# Altium footprint library PCA9685PW,118.PcbLib: 3 footprints
Each footprint in its own frame and in the unit in brackets; x right, y up, seen from the top. Pads: shape width x height; smd on the part's side, far side on the other; paste and mask are expansions set on the pad; w line width, h text height; cw(c..) or ccw(c..) is an arc to the next point about the centre after c.
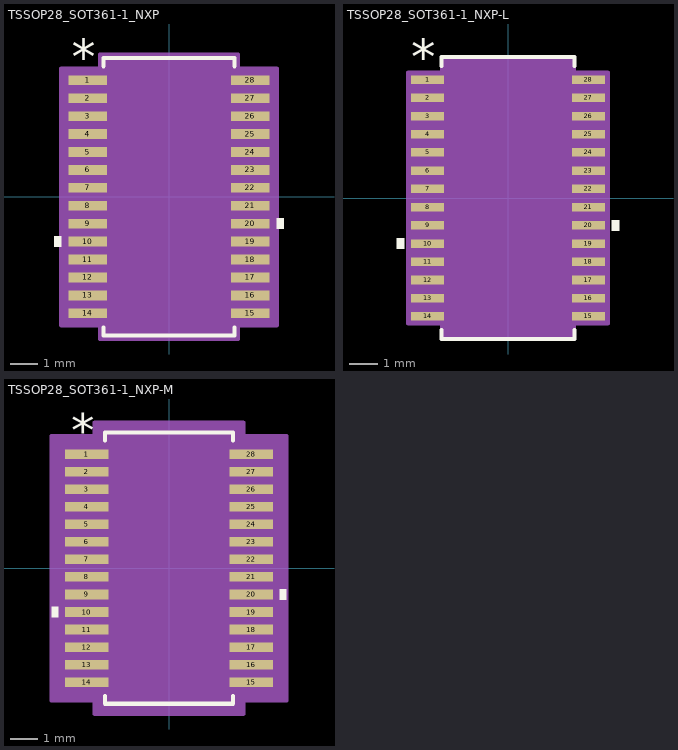
[diagram p0: the footprints below, top view; thin cyan lines are the x and y axes]

## TSSOP28_SOT361-1_NXP [mm]
pads (28):
  rect 1.404x0.355 smd paste+0 mask+0: 1(-2.95,4.225) 2(-2.95,3.575) 3(-2.95,2.925) 4(-2.95,2.275) 5(-2.95,1.625) 6(-2.95,0.975) 7(-2.95,0.325) 8(-2.95,-0.325) 9(-2.95,-0.975) 10(-2.95,-1.625) 11(-2.95,-2.275) 12(-2.95,-2.925) 13(-2.95,-3.575) 14(-2.95,-4.225) 15(2.95,-4.225) 16(2.95,-3.575) 17(2.95,-2.925) 18(2.95,-2.275) 19(2.95,-1.625) 20(2.95,-0.975) 21(2.95,-0.325) 22(2.95,0.325) 23(2.95,0.975) 24(2.95,1.625) 25(2.95,2.275) 26(2.95,2.925) 27(2.95,3.575) 28(2.95,4.225)
Top Overlay:
  region: -3.906,-1.434 -4.16,-1.434 -4.16,-1.815 -3.906,-1.815
  region: 3.906,-0.784 4.16,-0.784 4.16,-1.165 3.906,-1.165
  lines w0.152: -2.375,-4.735 -2.375,-5.029 2.375,-5.029 2.375,-4.735 ; -2.375,4.735 -2.375,5.029 2.375,5.029 2.375,4.735
  text "*" at -3.521,4.453 h1.27
  text ".Designator" at -3.492,-0.635 h1.27
Mechanical 13:
  lines w0.025: -0.305,4.902 ccw(c0,4.902) 0.305,4.902 ; -3.302,-4.377 -3.302,-4.073 -2.248,-4.073 -2.248,-4.377 -3.302,-4.377 ; -3.302,-3.727 -3.302,-3.423 -2.248,-3.423 -2.248,-3.727 -3.302,-3.727 ; -3.302,-3.077 -3.302,-2.773 -2.248,-2.773 -2.248,-3.077 -3.302,-3.077 ; -3.302,-2.427 -3.302,-2.123 -2.248,-2.123 -2.248,-2.427 -3.302,-2.427 ; -3.302,-1.777 -3.302,-1.473 -2.248,-1.473 -2.248,-1.777 -3.302,-1.777 ; -3.302,-1.127 -3.302,-0.823 -2.248,-0.823 -2.248,-1.127 -3.302,-1.127 ; -3.302,-0.477 -3.302,-0.173 -2.248,-0.173 -2.248,-0.477 -3.302,-0.477 ; -3.302,0.173 -3.302,0.477 -2.248,0.477 -2.248,0.173 -3.302,0.173 ; -3.302,0.823 -3.302,1.127 -2.248,1.127 -2.248,0.823 -3.302,0.823 ; -3.302,1.473 -3.302,1.777 -2.248,1.777 -2.248,1.473 -3.302,1.473 ; -3.302,2.123 -3.302,2.427 -2.248,2.427 -2.248,2.123 -3.302,2.123 ; -3.302,2.773 -3.302,3.077 -2.248,3.077 -2.248,2.773 -3.302,2.773 ; -3.302,3.423 -3.302,3.727 -2.248,3.727 -2.248,3.423 -3.302,3.423 ; -3.302,4.073 -3.302,4.377 -2.248,4.377 -2.248,4.073 -3.302,4.073 ; -2.248,-4.902 2.248,-4.902 2.248,4.902 -2.248,4.902 -2.248,-4.902 ; 2.248,-4.377 2.248,-4.073 3.302,-4.073 3.302,-4.377 2.248,-4.377 ; 2.248,-3.727 2.248,-3.423 3.302,-3.423 3.302,-3.727 2.248,-3.727 ; 2.248,-3.077 2.248,-2.773 3.302,-2.773 3.302,-3.077 2.248,-3.077 ; 2.248,-2.427 2.248,-2.123 3.302,-2.123 3.302,-2.427 2.248,-2.427 ; 2.248,-1.777 2.248,-1.473 3.302,-1.473 3.302,-1.777 2.248,-1.777 ; 2.248,-1.127 2.248,-0.823 3.302,-0.823 3.302,-1.127 2.248,-1.127 ; 2.248,-0.477 2.248,-0.173 3.302,-0.173 3.302,-0.477 2.248,-0.477 ; 2.248,0.173 2.248,0.477 3.302,0.477 3.302,0.173 2.248,0.173 ; 2.248,0.823 2.248,1.127 3.302,1.127 3.302,0.823 2.248,0.823 ; 2.248,1.473 2.248,1.777 3.302,1.777 3.302,1.473 2.248,1.473 ; 2.248,2.123 2.248,2.427 3.302,2.427 3.302,2.123 2.248,2.123 ; 2.248,2.773 2.248,3.077 3.302,3.077 3.302,2.773 2.248,2.773 ; 2.248,3.423 2.248,3.727 3.302,3.727 3.302,3.423 2.248,3.423 ; 2.248,4.073 2.248,4.377 3.302,4.377 3.302,4.073 2.248,4.073
  text ".Designator" at -3.492,-0.635 h1.27
  text "*" at -2.184,3.556 h1.27
Mechanical 15:
  region: -2.502,-4.656 -3.906,-4.656 -3.906,4.656 -2.502,4.656 -2.502,5.156 2.502,5.156 2.502,4.656 3.906,4.656 3.906,-4.656 2.502,-4.656 2.502,-5.156 -2.502,-5.156
  lines w0.152: -3.906,-4.656 -3.906,4.656 -2.502,4.656 -2.502,5.156 2.502,5.156 2.502,4.656 3.906,4.656 3.906,-4.656 2.502,-4.656 2.502,-5.156 -2.502,-5.156 -2.502,-4.656 -3.906,-4.656
3D body "TSSOP28_SOT361-1_NXP.step": height 1.09, standoff 0, extent -3.302,-4.902 3.302,4.902

## TSSOP28_SOT361-1_NXP-L [mm]
pads (28):
  rect 1.162x0.305 smd paste+0 mask+0: 1(-2.871,4.225) 2(-2.871,3.575) 3(-2.871,2.925) 4(-2.871,2.275) 5(-2.871,1.625) 6(-2.871,0.975) 7(-2.871,0.325) 8(-2.871,-0.325) 9(-2.871,-0.975) 10(-2.871,-1.625) 11(-2.871,-2.275) 12(-2.871,-2.925) 13(-2.871,-3.575) 14(-2.871,-4.225) 15(2.871,-4.225) 16(2.871,-3.575) 17(2.871,-2.925) 18(2.871,-2.275) 19(2.871,-1.625) 20(2.871,-0.975) 21(2.871,-0.325) 22(2.871,0.325) 23(2.871,0.975) 24(2.871,1.625) 25(2.871,2.275) 26(2.871,2.925) 27(2.871,3.575) 28(2.871,4.225)
Top Overlay:
  region: -3.706,-1.434 -3.96,-1.434 -3.96,-1.815 -3.706,-1.815
  region: 3.706,-0.784 3.96,-0.784 3.96,-1.165 3.706,-1.165
  lines w0.152: -2.375,-4.71 -2.375,-5.029 2.375,-5.029 2.375,-4.71 ; -2.375,4.71 -2.375,5.029 2.375,5.029 2.375,4.71
  text "*" at -3.443,4.403 h1.27
  text ".Designator" at -3.492,-0.635 h1.27
Mechanical 13:
  lines w0.025: -0.305,4.902 ccw(c0,4.902) 0.305,4.902 ; -3.302,-4.377 -3.302,-4.073 -2.248,-4.073 -2.248,-4.377 -3.302,-4.377 ; -3.302,-3.727 -3.302,-3.423 -2.248,-3.423 -2.248,-3.727 -3.302,-3.727 ; -3.302,-3.077 -3.302,-2.773 -2.248,-2.773 -2.248,-3.077 -3.302,-3.077 ; -3.302,-2.427 -3.302,-2.123 -2.248,-2.123 -2.248,-2.427 -3.302,-2.427 ; -3.302,-1.777 -3.302,-1.473 -2.248,-1.473 -2.248,-1.777 -3.302,-1.777 ; -3.302,-1.127 -3.302,-0.823 -2.248,-0.823 -2.248,-1.127 -3.302,-1.127 ; -3.302,-0.477 -3.302,-0.173 -2.248,-0.173 -2.248,-0.477 -3.302,-0.477 ; -3.302,0.173 -3.302,0.477 -2.248,0.477 -2.248,0.173 -3.302,0.173 ; -3.302,0.823 -3.302,1.127 -2.248,1.127 -2.248,0.823 -3.302,0.823 ; -3.302,1.473 -3.302,1.777 -2.248,1.777 -2.248,1.473 -3.302,1.473 ; -3.302,2.123 -3.302,2.427 -2.248,2.427 -2.248,2.123 -3.302,2.123 ; -3.302,2.773 -3.302,3.077 -2.248,3.077 -2.248,2.773 -3.302,2.773 ; -3.302,3.423 -3.302,3.727 -2.248,3.727 -2.248,3.423 -3.302,3.423 ; -3.302,4.073 -3.302,4.377 -2.248,4.377 -2.248,4.073 -3.302,4.073 ; -2.248,-4.902 2.248,-4.902 2.248,4.902 -2.248,4.902 -2.248,-4.902 ; 2.248,-4.377 2.248,-4.073 3.302,-4.073 3.302,-4.377 2.248,-4.377 ; 2.248,-3.727 2.248,-3.423 3.302,-3.423 3.302,-3.727 2.248,-3.727 ; 2.248,-3.077 2.248,-2.773 3.302,-2.773 3.302,-3.077 2.248,-3.077 ; 2.248,-2.427 2.248,-2.123 3.302,-2.123 3.302,-2.427 2.248,-2.427 ; 2.248,-1.777 2.248,-1.473 3.302,-1.473 3.302,-1.777 2.248,-1.777 ; 2.248,-1.127 2.248,-0.823 3.302,-0.823 3.302,-1.127 2.248,-1.127 ; 2.248,-0.477 2.248,-0.173 3.302,-0.173 3.302,-0.477 2.248,-0.477 ; 2.248,0.173 2.248,0.477 3.302,0.477 3.302,0.173 2.248,0.173 ; 2.248,0.823 2.248,1.127 3.302,1.127 3.302,0.823 2.248,0.823 ; 2.248,1.473 2.248,1.777 3.302,1.777 3.302,1.473 2.248,1.473 ; 2.248,2.123 2.248,2.427 3.302,2.427 3.302,2.123 2.248,2.123 ; 2.248,2.773 2.248,3.077 3.302,3.077 3.302,2.773 2.248,2.773 ; 2.248,3.423 2.248,3.727 3.302,3.727 3.302,3.423 2.248,3.423 ; 2.248,4.073 2.248,4.377 3.302,4.377 3.302,4.073 2.248,4.073
  text ".Designator" at -3.492,-0.635 h1.27
  text "*" at -2.184,3.556 h1.27
Mechanical 15:
  region: -2.349,-4.479 -3.554,-4.479 -3.554,4.479 -2.349,4.479 -2.349,5.004 2.349,5.004 2.349,4.479 3.554,4.479 3.554,-4.479 2.349,-4.479 2.349,-5.004 -2.349,-5.004
  lines w0.152: -3.554,-4.479 -3.554,4.479 -2.349,4.479 -2.349,5.004 2.349,5.004 2.349,4.479 3.554,4.479 3.554,-4.479 2.349,-4.479 2.349,-5.004 -2.349,-5.004 -2.349,-4.479 -3.554,-4.479
3D body "TSSOP28_SOT361-1_NXP.step": height 1.09, standoff 0, extent -3.302,-4.902 3.302,4.902

## TSSOP28_SOT361-1_NXP-M [mm]
pads (28):
  rect 1.604x0.355 smd paste+0 mask+0: 1(-3.05,4.225) 2(-3.05,3.575) 3(-3.05,2.925) 4(-3.05,2.275) 5(-3.05,1.625) 6(-3.05,0.975) 7(-3.05,0.325) 8(-3.05,-0.325) 9(-3.05,-0.975) 10(-3.05,-1.625) 11(-3.05,-2.275) 12(-3.05,-2.925) 13(-3.05,-3.575) 14(-3.05,-4.225) 15(3.05,-4.225) 16(3.05,-3.575) 17(3.05,-2.925) 18(3.05,-2.275) 19(3.05,-1.625) 20(3.05,-0.975) 21(3.05,-0.325) 22(3.05,0.325) 23(3.05,0.975) 24(3.05,1.625) 25(3.05,2.275) 26(3.05,2.925) 27(3.05,3.575) 28(3.05,4.225)
Top Overlay:
  region: -4.106,-1.434 -4.36,-1.434 -4.36,-1.815 -4.106,-1.815
  region: 4.106,-0.784 4.36,-0.784 4.36,-1.165 4.106,-1.165
  lines w0.152: -2.375,-4.735 -2.375,-5.029 2.375,-5.029 2.375,-4.735 ; -2.375,4.735 -2.375,5.029 2.375,5.029 2.375,4.735
  text "*" at -3.621,4.453 h1.27
  text ".Designator" at -3.492,-0.635 h1.27
Mechanical 13:
  lines w0.025: -0.305,4.902 ccw(c0,4.902) 0.305,4.902 ; -3.302,-4.377 -3.302,-4.073 -2.248,-4.073 -2.248,-4.377 -3.302,-4.377 ; -3.302,-3.727 -3.302,-3.423 -2.248,-3.423 -2.248,-3.727 -3.302,-3.727 ; -3.302,-3.077 -3.302,-2.773 -2.248,-2.773 -2.248,-3.077 -3.302,-3.077 ; -3.302,-2.427 -3.302,-2.123 -2.248,-2.123 -2.248,-2.427 -3.302,-2.427 ; -3.302,-1.777 -3.302,-1.473 -2.248,-1.473 -2.248,-1.777 -3.302,-1.777 ; -3.302,-1.127 -3.302,-0.823 -2.248,-0.823 -2.248,-1.127 -3.302,-1.127 ; -3.302,-0.477 -3.302,-0.173 -2.248,-0.173 -2.248,-0.477 -3.302,-0.477 ; -3.302,0.173 -3.302,0.477 -2.248,0.477 -2.248,0.173 -3.302,0.173 ; -3.302,0.823 -3.302,1.127 -2.248,1.127 -2.248,0.823 -3.302,0.823 ; -3.302,1.473 -3.302,1.777 -2.248,1.777 -2.248,1.473 -3.302,1.473 ; -3.302,2.123 -3.302,2.427 -2.248,2.427 -2.248,2.123 -3.302,2.123 ; -3.302,2.773 -3.302,3.077 -2.248,3.077 -2.248,2.773 -3.302,2.773 ; -3.302,3.423 -3.302,3.727 -2.248,3.727 -2.248,3.423 -3.302,3.423 ; -3.302,4.073 -3.302,4.377 -2.248,4.377 -2.248,4.073 -3.302,4.073 ; -2.248,-4.902 2.248,-4.902 2.248,4.902 -2.248,4.902 -2.248,-4.902 ; 2.248,-4.377 2.248,-4.073 3.302,-4.073 3.302,-4.377 2.248,-4.377 ; 2.248,-3.727 2.248,-3.423 3.302,-3.423 3.302,-3.727 2.248,-3.727 ; 2.248,-3.077 2.248,-2.773 3.302,-2.773 3.302,-3.077 2.248,-3.077 ; 2.248,-2.427 2.248,-2.123 3.302,-2.123 3.302,-2.427 2.248,-2.427 ; 2.248,-1.777 2.248,-1.473 3.302,-1.473 3.302,-1.777 2.248,-1.777 ; 2.248,-1.127 2.248,-0.823 3.302,-0.823 3.302,-1.127 2.248,-1.127 ; 2.248,-0.477 2.248,-0.173 3.302,-0.173 3.302,-0.477 2.248,-0.477 ; 2.248,0.173 2.248,0.477 3.302,0.477 3.302,0.173 2.248,0.173 ; 2.248,0.823 2.248,1.127 3.302,1.127 3.302,0.823 2.248,0.823 ; 2.248,1.473 2.248,1.777 3.302,1.777 3.302,1.473 2.248,1.473 ; 2.248,2.123 2.248,2.427 3.302,2.427 3.302,2.123 2.248,2.123 ; 2.248,2.773 2.248,3.077 3.302,3.077 3.302,2.773 2.248,2.773 ; 2.248,3.423 2.248,3.727 3.302,3.727 3.302,3.423 2.248,3.423 ; 2.248,4.073 2.248,4.377 3.302,4.377 3.302,4.073 2.248,4.073
  text ".Designator" at -3.492,-0.635 h1.27
  text "*" at -2.184,3.556 h1.27
Mechanical 15:
  region: -2.756,-4.91 -4.36,-4.91 -4.36,4.91 -2.756,4.91 -2.756,5.41 2.756,5.41 2.756,4.91 4.36,4.91 4.36,-4.91 2.756,-4.91 2.756,-5.41 -2.756,-5.41
  lines w0.152: -4.36,-4.91 -4.36,4.91 -2.756,4.91 -2.756,5.41 2.756,5.41 2.756,4.91 4.36,4.91 4.36,-4.91 2.756,-4.91 2.756,-5.41 -2.756,-5.41 -2.756,-4.91 -4.36,-4.91
3D body "TSSOP28_SOT361-1_NXP.step": height 1.09, standoff 0, extent -3.302,-4.902 3.302,4.902